# Altium footprint library PCB - CAPACITOR - ALUMINIUM - CAP ALSMD POLY 8.00MM H10.80MM.pcblib: 1 footprints
Each footprint in its own frame and in the unit in brackets; x right, y up, seen from the top. Pads: shape width x height; smd on the part's side, far side on the other; paste and mask are expansions set on the pad; w line width, h text height; cw(c..) or ccw(c..) is an arc to the next point about the centre after c.
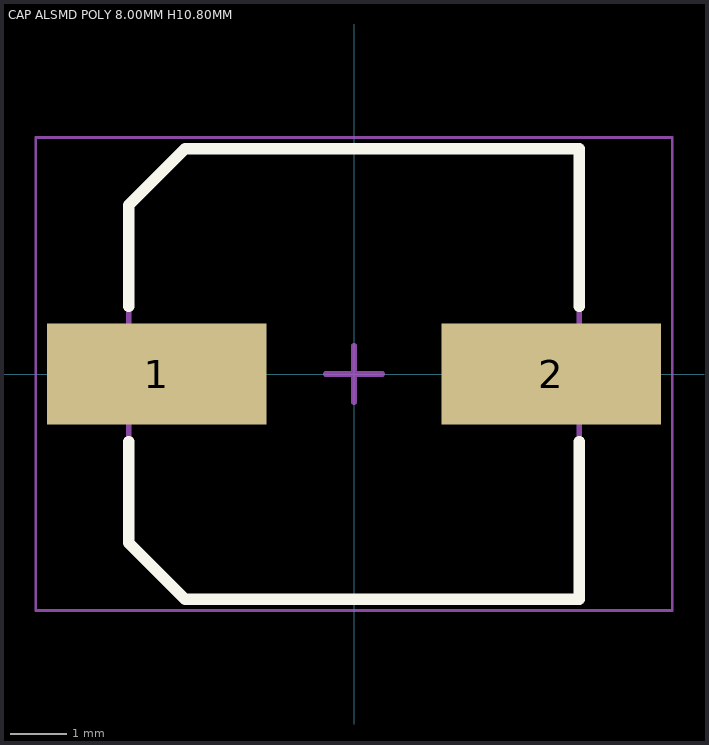
[diagram p0: the footprint, top view; thin cyan lines are the x and y axes]

## CAP ALSMD POLY 8.00MM H10.80MM [mm] "Aluminum SMT Polymer Capacitor, 8.0mm Diameter, 10.80mm Height, 9.00mm Maximum Leads Span"
height 0.9
pads (2):
  rect 3.9x1.8 smd: 1(-3.5,0) 2(3.5,0)
Top Overlay:
  lines w0.2: -4,-1.2 -4,-3 -3,-4 4,-4 4,-1.2 ; -4,1.2 -4,3 -3,4 4,4 4,1.2
Mechanical 13:
  lines w0.1: -4,-3 -4,3 -3,4 4,4 4,-4 -3,-4 -4,-3
Mechanical 15:
  lines w0.05: -5.65,-4.2 -5.65,4.2 5.65,4.2 5.65,-4.2 -5.65,-4.2
  lines w0.1: -0.5,0 0.5,0 ; 0,-0.5 0,0.5
3D body: height 10.8, standoff 0, extent -4.5,-4 4.5,4